# Altium schematic symbol library LM2596S-ADJ.SchLib: 1 symbol
Pins are listed as number, name and electrical type; pins without a type are passive.

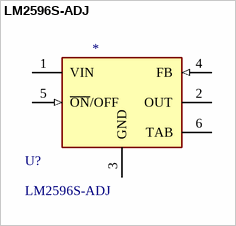
[diagram p0: symbol LM2596S-ADJ]

## LM2596S-ADJ
designator U?
Step-down type Adjustable 40V 1.2V~37V 3A TO-263-5  DC-DC Converters ROHS; LCSC: *
footprint LM2596S-ADJ
pins: 1 VIN (power), 2 OUT (power), 3 GND (power), 4 FB (in), 5 ~{ON}/OFF (in), 6 TAB (power)